# EAGLE library part LMG1205 (library gan)
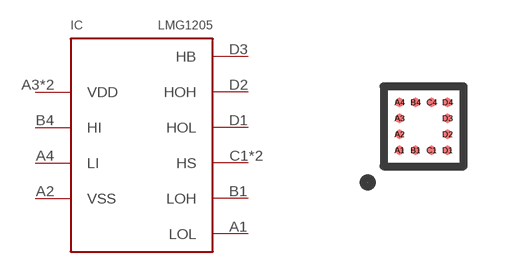
[diagram p0: symbol with the pads of YFX0012; footprint YFX0012]

Designator prefix IC

## LMG1205  [YFX0012]
A1  LOL  pas
A2  VSS  pas
A3  VDD  pas
A4  LI  in
B1  LOH  pas
B4  HI  in
C1  HS  pas
C4  VDD  pas
D1  HOL  pas
D2  HOH  pas
D3  HB  pas
D4  HS  pas

## Footprint YFX0012 (pad centres in mm)
smd 0.22 x 0.22: A1 -0.6,-0.6; A2 -0.6,-0.2; A3 -0.6,0.2; A4 -0.6,0.6; B1 -0.2,-0.6; B4 -0.2,0.6; C1 0.2,-0.6; C4 0.2,0.6; D1 0.6,-0.6; D2 0.6,-0.2; D3 0.6,0.2; D4 0.6,0.6